# Altium schematic symbol library 890334023028.SchLib: 1 symbol
Pins are listed as number, name and electrical type; pins without a type are passive.

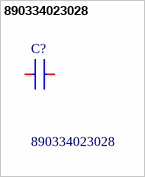
[diagram p0: symbol 890334023028]

## 890334023028
designator C?
WURTH ELEKTRONIK - 890334023028 - Safety Capacitor, 0.22 F, X2, WCAP-FTXX Series, 310 V, Metallized PP; Geometry.Height: 14.5mm; Mouser Part Number: 710-890334023028; Mouser Price/Stock: https://www.mouser.co.uk/ProductDetail/Wurth-Elektronik/890334023028?qs=pceeu5JH%2FH%2FQtsmowFDNJg%3D%3D; Manufacturer_Name: Wurth Elektronik; Manufacturer_Part_Number: 890334023028; Datasheet Link: *
footprint 890334023028
pins: 1, 2